# Altium footprint library Connector_Audio.PcbLib: 212 footprints (part 9 of 14)
Each footprint in its own frame and in the unit in brackets; x right, y up, seen from the top. Pads: shape width x height; smd on the part's side, far side on the other; paste and mask are expansions set on the pad; w line width, h text height; cw(c..) or ccw(c..) is an arc to the next point about the centre after c.
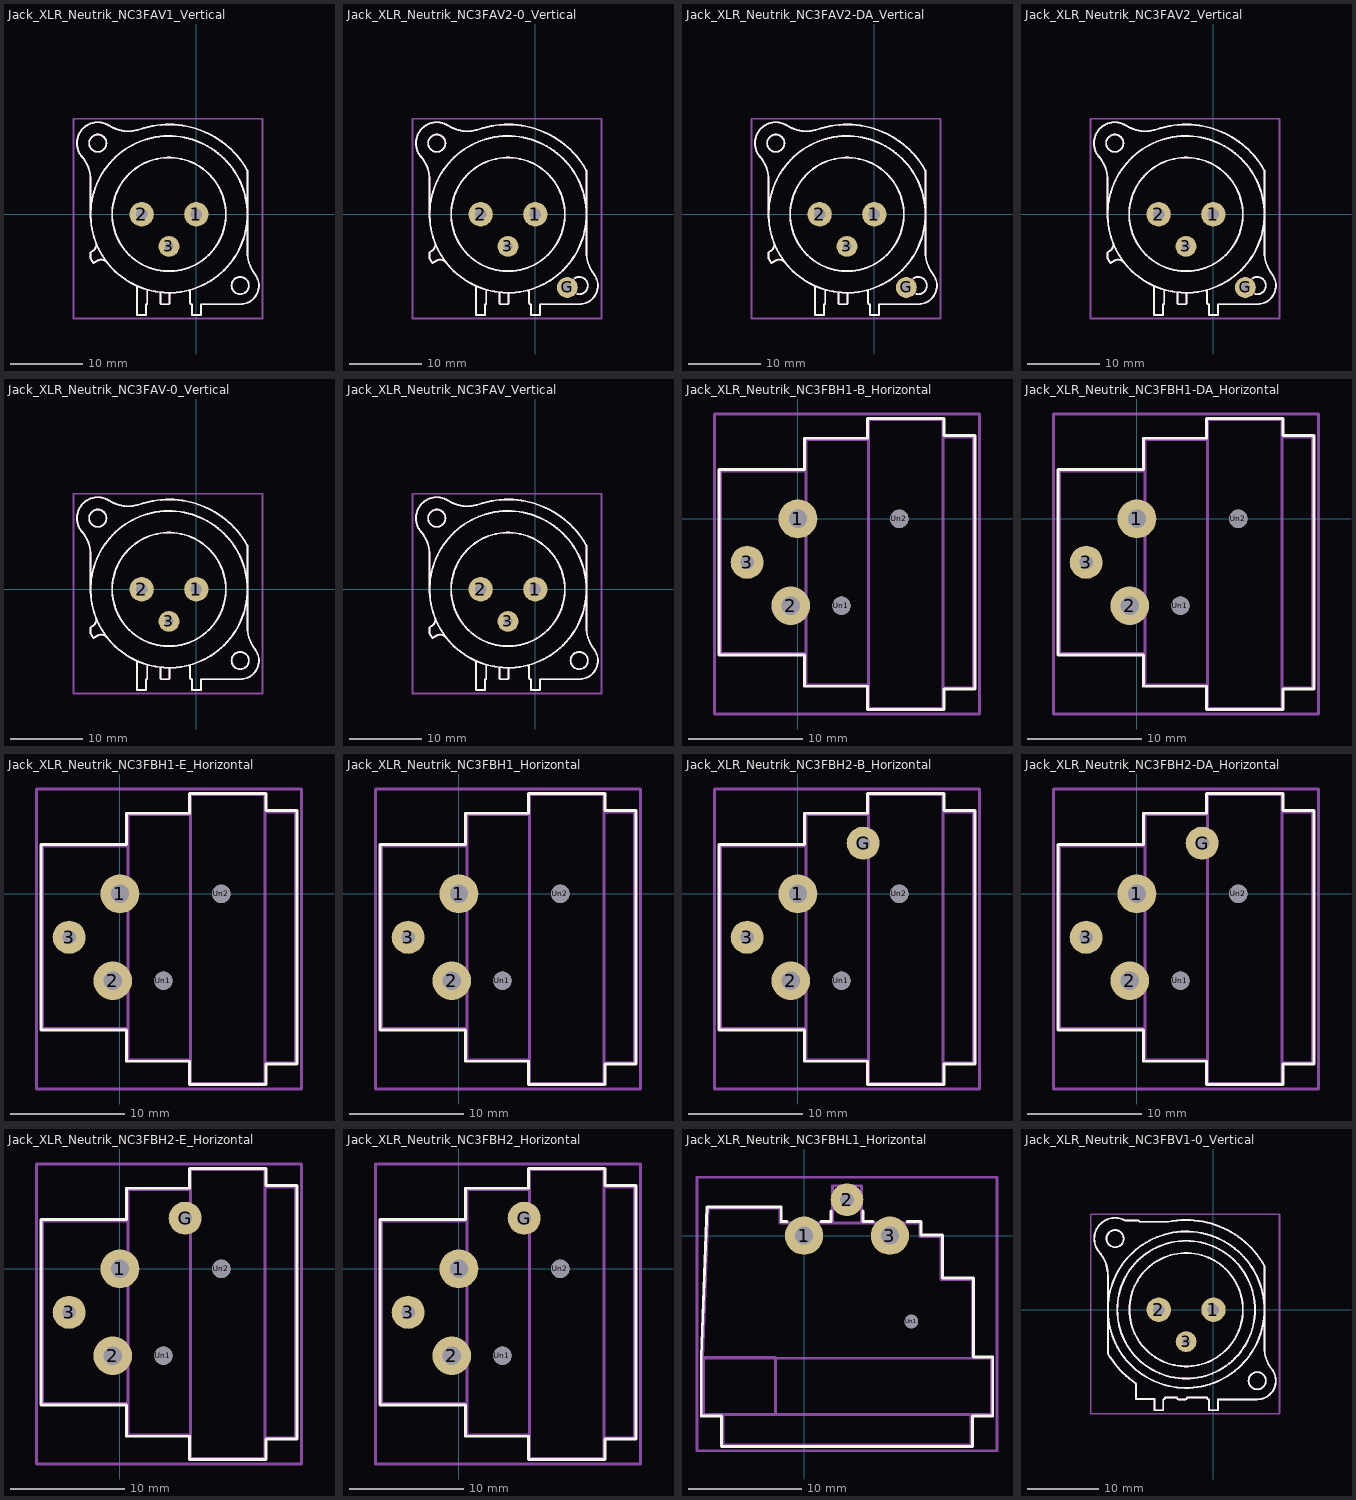
[diagram p8: the footprints below, top view; thin cyan lines are the x and y axes]

## Jack_XLR_Neutrik_NC3FAV1_Vertical [mm]
pads (3):
  round 3.4 hole 1.6: 1(0,0) 2(-7.62,0)
  round 2.9 hole 1.2: 3(-3.81,-4.45)
F.SilkS:
  circle w0.254: c6.09,-9.9 r1.2
  circle w0.254: c-3.81,0 r10.9
  circle w0.254: c-3.81,0 r7.9
  circle w0.254: c-13.71,9.9 r1.2
  lines w0.254: -15.909,8.001 cw(c-19.69,4.76) -14.71,4.76 -14.71,0 ; -15.908,8.002 cw(c-13.71,9.9) -12.15,12.35 ccw(c-9.46,16.56) -7.848,11.831 ; -14.323,-6.763 cw(c-3.809,0) -14.71,-6.12 -14.71,-5.26 -14.44,-5.11 ccw(c-14.95,-4.23) -14.004,-3.856 ; -14.32,-6.76 -13.71,-6.42 cw(c-13.22,-7.31) -12.412,-6.694 ; -8.24,-9.96 -8.24,-14 -7,-14 -7,-12.5 ccw(c-7,-12.34) -6.84,-12.34 -6.84,-10.69 cw(c-6.65,-10.69) -6.709,-10.509 ; -7.841,11.833 cw(c-3.81,0) 7.09,6.12 7.09,-5.24 ccw(c12.07,-5.24) 8.098,-8.244 ; -5.01,-10.83 -5.01,-12.3 ccw(c-4.81,-12.3) -4.81,-12.5 -3.94,-12.5 ccw(c-3.94,-12.3) -3.74,-12.3 -3.74,-10.9 ; -1.129,-10.566 cw(c-1.08,-10.76) -0.88,-10.76 -0.88,-12.3 ccw(c-0.68,-12.3) -0.68,-12.5 -0.63,-12.5 -0.63,-14 0.62,-14 ; 0.63,-14 0.63,-12.5 6.09,-12.5 ccw(c6.09,-9.9) 8.096,-8.246 ; 2.62,8.8 ccw(c3.18,9.33) 2.637,8.783 ; 2.64,8.8 ccw(c3.1,9.33) 2.68,8.768
Top Assembly:
  circle w0.254: c6.09,-9.9 r1.2
  circle w0.254: c-3.81,0 r10.9
  circle w0.254: c-3.81,0 r7.9
  circle w0.254: c-13.71,9.9 r1.2
  lines w0.254: -15.909,8.001 cw(c-19.69,4.76) -14.71,4.76 -14.71,0 ; -15.908,8.002 cw(c-13.71,9.9) -12.15,12.35 ccw(c-9.46,16.56) -7.848,11.831 ; -14.323,-6.763 cw(c-3.809,0) -14.71,-6.12 -14.71,-5.26 -14.44,-5.11 ccw(c-14.95,-4.23) -14.004,-3.856 ; -14.32,-6.76 -13.71,-6.42 cw(c-13.22,-7.31) -12.412,-6.694 ; -8.24,-9.96 -8.24,-14 -7,-14 -7,-12.5 ccw(c-7,-12.34) -6.84,-12.34 -6.84,-10.69 cw(c-6.65,-10.69) -6.709,-10.509 ; -7.841,11.833 cw(c-3.81,0) 7.09,6.12 7.09,-5.24 ccw(c12.07,-5.24) 8.098,-8.244 ; -5.01,-10.83 -5.01,-12.3 ccw(c-4.81,-12.3) -4.81,-12.5 -3.94,-12.5 ccw(c-3.94,-12.3) -3.74,-12.3 -3.74,-10.9 ; -1.129,-10.566 cw(c-1.08,-10.76) -0.88,-10.76 -0.88,-12.3 ccw(c-0.68,-12.3) -0.68,-12.5 -0.63,-12.5 -0.63,-14 0.62,-14 ; 0.63,-14 0.63,-12.5 6.09,-12.5 ccw(c6.09,-9.9) 8.096,-8.246 ; 2.62,8.8 ccw(c3.18,9.33) 2.637,8.783 ; 2.64,8.8 ccw(c3.1,9.33) 2.68,8.768
  text "'.Designator'" at -7.857,0.16 h1
Top Courtyard:
  lines w0.254: -17.1,-14.5 9.2,-14.5 9.2,13.3 -17.1,13.3 -17.1,-14.5
Top Designator:
  text ".Designator" at -11.568,-1.108 h1.52

## Jack_XLR_Neutrik_NC3FAV2-0_Vertical [mm]
pads (4):
  round 3.4 hole 1.6: 1(0,0) 2(-7.62,0)
  round 2.9 hole 1.2: 3(-3.81,-4.45) G(4.44,-10.16)
F.SilkS:
  circle w0.254: c-3.81,0 r10.9
  circle w0.254: c-3.81,0 r7.9
  circle w0.254: c-13.71,9.9 r1.2
  lines w0.254: -15.909,8.001 cw(c-19.69,4.76) -14.71,4.76 -14.71,0 ; -15.908,8.002 cw(c-13.71,9.9) -12.15,12.35 ccw(c-9.46,16.56) -7.848,11.831 ; -14.323,-6.763 cw(c-3.809,0) -14.71,-6.12 -14.71,-5.26 -14.44,-5.11 ccw(c-14.95,-4.23) -14.004,-3.856 ; -14.32,-6.76 -13.71,-6.42 cw(c-13.22,-7.31) -12.412,-6.694 ; -8.24,-9.96 -8.24,-14 -7,-14 -7,-12.5 ccw(c-7,-12.34) -6.84,-12.34 -6.84,-10.69 cw(c-6.65,-10.69) -6.709,-10.509 ; -7.841,11.833 cw(c-3.81,0) 7.09,6.12 7.09,-5.24 ccw(c12.07,-5.24) 8.098,-8.244 ; -5.01,-10.83 -5.01,-12.3 ccw(c-4.81,-12.3) -4.81,-12.5 -3.94,-12.5 ccw(c-3.94,-12.3) -3.74,-12.3 -3.74,-10.9 ; -1.129,-10.566 cw(c-1.08,-10.76) -0.88,-10.76 -0.88,-12.3 ccw(c-0.68,-12.3) -0.68,-12.5 -0.63,-12.5 -0.63,-14 0.62,-14 ; 0.63,-14 0.63,-12.5 6.09,-12.5 ccw(c6.09,-9.9) 8.096,-8.246 ; 2.62,8.8 ccw(c3.18,9.33) 2.637,8.783 ; 2.64,8.8 ccw(c3.1,9.33) 2.68,8.768 ; 5.508,-8.848 cw(c6.09,-9.9) 5.86,-11.08
Top Assembly:
  circle w0.254: c6.09,-9.9 r1.2
  circle w0.254: c-3.81,0 r10.9
  circle w0.254: c-3.81,0 r7.9
  circle w0.254: c-13.71,9.9 r1.2
  lines w0.254: -15.909,8.001 cw(c-19.69,4.76) -14.71,4.76 -14.71,0 ; -15.908,8.002 cw(c-13.71,9.9) -12.15,12.35 ccw(c-9.46,16.56) -7.848,11.831 ; -14.323,-6.763 cw(c-3.809,0) -14.71,-6.12 -14.71,-5.26 -14.44,-5.11 ccw(c-14.95,-4.23) -14.004,-3.856 ; -14.32,-6.76 -13.71,-6.42 cw(c-13.22,-7.31) -12.412,-6.694 ; -8.24,-9.96 -8.24,-14 -7,-14 -7,-12.5 ccw(c-7,-12.34) -6.84,-12.34 -6.84,-10.69 cw(c-6.65,-10.69) -6.709,-10.509 ; -7.841,11.833 cw(c-3.81,0) 7.09,6.12 7.09,-5.24 ccw(c12.07,-5.24) 8.098,-8.244 ; -5.01,-10.83 -5.01,-12.3 ccw(c-4.81,-12.3) -4.81,-12.5 -3.94,-12.5 ccw(c-3.94,-12.3) -3.74,-12.3 -3.74,-10.9 ; -1.129,-10.566 cw(c-1.08,-10.76) -0.88,-10.76 -0.88,-12.3 ccw(c-0.68,-12.3) -0.68,-12.5 -0.63,-12.5 -0.63,-14 0.62,-14 ; 0.63,-14 0.63,-12.5 6.09,-12.5 ccw(c6.09,-9.9) 8.096,-8.246 ; 2.62,8.8 ccw(c3.18,9.33) 2.637,8.783 ; 2.64,8.8 ccw(c3.1,9.33) 2.68,8.768
  text "'.Designator'" at -7.857,0.16 h1
Top Courtyard:
  lines w0.254: -17.1,-14.5 9.2,-14.5 9.2,13.3 -17.1,13.3 -17.1,-14.5
Top Designator:
  text ".Designator" at -11.568,-1.108 h1.52

## Jack_XLR_Neutrik_NC3FAV2-DA_Vertical [mm]
pads (4):
  round 3.4 hole 1.6: 1(0,0) 2(-7.62,0)
  round 2.9 hole 1.2: 3(-3.81,-4.45) G(4.44,-10.16)
F.SilkS:
  circle w0.254: c-3.81,0 r10.9
  circle w0.254: c-3.81,0 r7.9
  circle w0.254: c-13.71,9.9 r1.2
  lines w0.254: -15.909,8.001 cw(c-19.69,4.76) -14.71,4.76 -14.71,0 ; -15.908,8.002 cw(c-13.71,9.9) -12.15,12.35 ccw(c-9.46,16.56) -7.848,11.831 ; -14.323,-6.763 cw(c-3.809,0) -14.71,-6.12 -14.71,-5.26 -14.44,-5.11 ccw(c-14.95,-4.23) -14.004,-3.856 ; -14.32,-6.76 -13.71,-6.42 cw(c-13.22,-7.31) -12.412,-6.694 ; -8.24,-9.96 -8.24,-14 -7,-14 -7,-12.5 ccw(c-7,-12.34) -6.84,-12.34 -6.84,-10.69 cw(c-6.65,-10.69) -6.709,-10.509 ; -7.841,11.833 cw(c-3.81,0) 7.09,6.12 7.09,-5.24 ccw(c12.07,-5.24) 8.098,-8.244 ; -5.01,-10.83 -5.01,-12.3 ccw(c-4.81,-12.3) -4.81,-12.5 -3.94,-12.5 ccw(c-3.94,-12.3) -3.74,-12.3 -3.74,-10.9 ; -1.129,-10.566 cw(c-1.08,-10.76) -0.88,-10.76 -0.88,-12.3 ccw(c-0.68,-12.3) -0.68,-12.5 -0.63,-12.5 -0.63,-14 0.62,-14 ; 0.63,-14 0.63,-12.5 6.09,-12.5 ccw(c6.09,-9.9) 8.096,-8.246 ; 2.62,8.8 ccw(c3.18,9.33) 2.637,8.783 ; 2.64,8.8 ccw(c3.1,9.33) 2.68,8.768 ; 5.508,-8.848 cw(c6.09,-9.9) 5.86,-11.08
Top Assembly:
  circle w0.254: c6.09,-9.9 r1.2
  circle w0.254: c-3.81,0 r10.9
  circle w0.254: c-3.81,0 r7.9
  circle w0.254: c-13.71,9.9 r1.2
  lines w0.254: -15.909,8.001 cw(c-19.69,4.76) -14.71,4.76 -14.71,0 ; -15.908,8.002 cw(c-13.71,9.9) -12.15,12.35 ccw(c-9.46,16.56) -7.848,11.831 ; -14.323,-6.763 cw(c-3.809,0) -14.71,-6.12 -14.71,-5.26 -14.44,-5.11 ccw(c-14.95,-4.23) -14.004,-3.856 ; -14.32,-6.76 -13.71,-6.42 cw(c-13.22,-7.31) -12.412,-6.694 ; -8.24,-9.96 -8.24,-14 -7,-14 -7,-12.5 ccw(c-7,-12.34) -6.84,-12.34 -6.84,-10.69 cw(c-6.65,-10.69) -6.709,-10.509 ; -7.841,11.833 cw(c-3.81,0) 7.09,6.12 7.09,-5.24 ccw(c12.07,-5.24) 8.098,-8.244 ; -5.01,-10.83 -5.01,-12.3 ccw(c-4.81,-12.3) -4.81,-12.5 -3.94,-12.5 ccw(c-3.94,-12.3) -3.74,-12.3 -3.74,-10.9 ; -1.129,-10.566 cw(c-1.08,-10.76) -0.88,-10.76 -0.88,-12.3 ccw(c-0.68,-12.3) -0.68,-12.5 -0.63,-12.5 -0.63,-14 0.62,-14 ; 0.63,-14 0.63,-12.5 6.09,-12.5 ccw(c6.09,-9.9) 8.096,-8.246 ; 2.62,8.8 ccw(c3.18,9.33) 2.637,8.783 ; 2.64,8.8 ccw(c3.1,9.33) 2.68,8.768
  text "'.Designator'" at -7.857,0.16 h1
Top Courtyard:
  lines w0.254: -17.1,-14.5 9.2,-14.5 9.2,13.3 -17.1,13.3 -17.1,-14.5
Top Designator:
  text ".Designator" at -11.568,-1.108 h1.52

## Jack_XLR_Neutrik_NC3FAV2_Vertical [mm]
pads (4):
  round 3.4 hole 1.6: 1(0,0) 2(-7.62,0)
  round 2.9 hole 1.2: 3(-3.81,-4.45) G(4.44,-10.16)
F.SilkS:
  circle w0.254: c-3.81,0 r10.9
  circle w0.254: c-3.81,0 r7.9
  circle w0.254: c-13.71,9.9 r1.2
  lines w0.254: -15.909,8.001 cw(c-19.69,4.76) -14.71,4.76 -14.71,0 ; -15.908,8.002 cw(c-13.71,9.9) -12.15,12.35 ccw(c-9.46,16.56) -7.848,11.831 ; -14.323,-6.763 cw(c-3.809,0) -14.71,-6.12 -14.71,-5.26 -14.44,-5.11 ccw(c-14.95,-4.23) -14.004,-3.856 ; -14.32,-6.76 -13.71,-6.42 cw(c-13.22,-7.31) -12.412,-6.694 ; -8.24,-9.96 -8.24,-14 -7,-14 -7,-12.5 ccw(c-7,-12.34) -6.84,-12.34 -6.84,-10.69 cw(c-6.65,-10.69) -6.709,-10.509 ; -7.841,11.833 cw(c-3.81,0) 7.09,6.12 7.09,-5.24 ccw(c12.07,-5.24) 8.098,-8.244 ; -5.01,-10.83 -5.01,-12.3 ccw(c-4.81,-12.3) -4.81,-12.5 -3.94,-12.5 ccw(c-3.94,-12.3) -3.74,-12.3 -3.74,-10.9 ; -1.129,-10.566 cw(c-1.08,-10.76) -0.88,-10.76 -0.88,-12.3 ccw(c-0.68,-12.3) -0.68,-12.5 -0.63,-12.5 -0.63,-14 0.62,-14 ; 0.63,-14 0.63,-12.5 6.09,-12.5 ccw(c6.09,-9.9) 8.096,-8.246 ; 2.62,8.8 ccw(c3.18,9.33) 2.637,8.783 ; 2.64,8.8 ccw(c3.1,9.33) 2.68,8.768 ; 5.508,-8.848 cw(c6.09,-9.9) 5.86,-11.08
Top Assembly:
  circle w0.254: c6.09,-9.9 r1.2
  circle w0.254: c-3.81,0 r10.9
  circle w0.254: c-3.81,0 r7.9
  circle w0.254: c-13.71,9.9 r1.2
  lines w0.254: -15.909,8.001 cw(c-19.69,4.76) -14.71,4.76 -14.71,0 ; -15.908,8.002 cw(c-13.71,9.9) -12.15,12.35 ccw(c-9.46,16.56) -7.848,11.831 ; -14.323,-6.763 cw(c-3.809,0) -14.71,-6.12 -14.71,-5.26 -14.44,-5.11 ccw(c-14.95,-4.23) -14.004,-3.856 ; -14.32,-6.76 -13.71,-6.42 cw(c-13.22,-7.31) -12.412,-6.694 ; -8.24,-9.96 -8.24,-14 -7,-14 -7,-12.5 ccw(c-7,-12.34) -6.84,-12.34 -6.84,-10.69 cw(c-6.65,-10.69) -6.709,-10.509 ; -7.841,11.833 cw(c-3.81,0) 7.09,6.12 7.09,-5.24 ccw(c12.07,-5.24) 8.098,-8.244 ; -5.01,-10.83 -5.01,-12.3 ccw(c-4.81,-12.3) -4.81,-12.5 -3.94,-12.5 ccw(c-3.94,-12.3) -3.74,-12.3 -3.74,-10.9 ; -1.129,-10.566 cw(c-1.08,-10.76) -0.88,-10.76 -0.88,-12.3 ccw(c-0.68,-12.3) -0.68,-12.5 -0.63,-12.5 -0.63,-14 0.62,-14 ; 0.63,-14 0.63,-12.5 6.09,-12.5 ccw(c6.09,-9.9) 8.096,-8.246 ; 2.62,8.8 ccw(c3.18,9.33) 2.637,8.783 ; 2.64,8.8 ccw(c3.1,9.33) 2.68,8.768
  text "'.Designator'" at -7.857,0.16 h1
Top Courtyard:
  lines w0.254: -17.1,-14.5 9.2,-14.5 9.2,13.3 -17.1,13.3 -17.1,-14.5
Top Designator:
  text ".Designator" at -11.568,-1.108 h1.52

## Jack_XLR_Neutrik_NC3FAV-0_Vertical [mm]
pads (3):
  round 3.4 hole 1.6: 1(0,0) 2(-7.62,0)
  round 2.9 hole 1.2: 3(-3.81,-4.45)
F.SilkS:
  circle w0.254: c6.09,-9.9 r1.2
  circle w0.254: c-3.81,0 r10.9
  circle w0.254: c-3.81,0 r7.9
  circle w0.254: c-13.71,9.9 r1.2
  lines w0.254: -15.909,8.001 cw(c-19.69,4.76) -14.71,4.76 -14.71,0 ; -15.908,8.002 cw(c-13.71,9.9) -12.15,12.35 ccw(c-9.46,16.56) -7.848,11.831 ; -14.323,-6.763 cw(c-3.809,0) -14.71,-6.12 -14.71,-5.26 -14.44,-5.11 ccw(c-14.95,-4.23) -14.004,-3.856 ; -14.32,-6.76 -13.71,-6.42 cw(c-13.22,-7.31) -12.412,-6.694 ; -8.24,-9.96 -8.24,-14 -7,-14 -7,-12.5 ccw(c-7,-12.34) -6.84,-12.34 -6.84,-10.69 cw(c-6.65,-10.69) -6.709,-10.509 ; -7.841,11.833 cw(c-3.81,0) 7.09,6.12 7.09,-5.24 ccw(c12.07,-5.24) 8.098,-8.244 ; -5.01,-10.83 -5.01,-12.3 ccw(c-4.81,-12.3) -4.81,-12.5 -3.94,-12.5 ccw(c-3.94,-12.3) -3.74,-12.3 -3.74,-10.9 ; -1.129,-10.566 cw(c-1.08,-10.76) -0.88,-10.76 -0.88,-12.3 ccw(c-0.68,-12.3) -0.68,-12.5 -0.63,-12.5 -0.63,-14 0.62,-14 ; 0.63,-14 0.63,-12.5 6.09,-12.5 ccw(c6.09,-9.9) 8.096,-8.246 ; 2.62,8.8 ccw(c3.18,9.33) 2.637,8.783 ; 2.64,8.8 ccw(c3.1,9.33) 2.68,8.768
Top Assembly:
  circle w0.254: c6.09,-9.9 r1.2
  circle w0.254: c-3.81,0 r10.9
  circle w0.254: c-3.81,0 r7.9
  circle w0.254: c-13.71,9.9 r1.2
  lines w0.254: -15.909,8.001 cw(c-19.69,4.76) -14.71,4.76 -14.71,0 ; -15.908,8.002 cw(c-13.71,9.9) -12.15,12.35 ccw(c-9.46,16.56) -7.848,11.831 ; -14.323,-6.763 cw(c-3.809,0) -14.71,-6.12 -14.71,-5.26 -14.44,-5.11 ccw(c-14.95,-4.23) -14.004,-3.856 ; -14.32,-6.76 -13.71,-6.42 cw(c-13.22,-7.31) -12.412,-6.694 ; -8.24,-9.96 -8.24,-14 -7,-14 -7,-12.5 ccw(c-7,-12.34) -6.84,-12.34 -6.84,-10.69 cw(c-6.65,-10.69) -6.709,-10.509 ; -7.841,11.833 cw(c-3.81,0) 7.09,6.12 7.09,-5.24 ccw(c12.07,-5.24) 8.098,-8.244 ; -5.01,-10.83 -5.01,-12.3 ccw(c-4.81,-12.3) -4.81,-12.5 -3.94,-12.5 ccw(c-3.94,-12.3) -3.74,-12.3 -3.74,-10.9 ; -1.129,-10.566 cw(c-1.08,-10.76) -0.88,-10.76 -0.88,-12.3 ccw(c-0.68,-12.3) -0.68,-12.5 -0.63,-12.5 -0.63,-14 0.62,-14 ; 0.63,-14 0.63,-12.5 6.09,-12.5 ccw(c6.09,-9.9) 8.096,-8.246 ; 2.62,8.8 ccw(c3.18,9.33) 2.637,8.783 ; 2.64,8.8 ccw(c3.1,9.33) 2.68,8.768
  text "'.Designator'" at -7.857,0.16 h1
Top Courtyard:
  lines w0.254: -17.1,-14.5 9.2,-14.5 9.2,13.3 -17.1,13.3 -17.1,-14.5
Top Designator:
  text ".Designator" at -11.568,-1.108 h1.52

## Jack_XLR_Neutrik_NC3FAV_Vertical [mm]
pads (3):
  round 3.4 hole 1.6: 1(0,0) 2(-7.62,0)
  round 2.9 hole 1.2: 3(-3.81,-4.45)
F.SilkS:
  circle w0.254: c6.09,-9.9 r1.2
  circle w0.254: c-3.81,0 r10.9
  circle w0.254: c-3.81,0 r7.9
  circle w0.254: c-13.71,9.9 r1.2
  lines w0.254: -15.909,8.001 cw(c-19.69,4.76) -14.71,4.76 -14.71,0 ; -15.908,8.002 cw(c-13.71,9.9) -12.15,12.35 ccw(c-9.46,16.56) -7.848,11.831 ; -14.323,-6.763 cw(c-3.809,0) -14.71,-6.12 -14.71,-5.26 -14.44,-5.11 ccw(c-14.95,-4.23) -14.004,-3.856 ; -14.32,-6.76 -13.71,-6.42 cw(c-13.22,-7.31) -12.412,-6.694 ; -8.24,-9.96 -8.24,-14 -7,-14 -7,-12.5 ccw(c-7,-12.34) -6.84,-12.34 -6.84,-10.69 cw(c-6.65,-10.69) -6.709,-10.509 ; -7.841,11.833 cw(c-3.81,0) 7.09,6.12 7.09,-5.24 ccw(c12.07,-5.24) 8.098,-8.244 ; -5.01,-10.83 -5.01,-12.3 ccw(c-4.81,-12.3) -4.81,-12.5 -3.94,-12.5 ccw(c-3.94,-12.3) -3.74,-12.3 -3.74,-10.9 ; -1.129,-10.566 cw(c-1.08,-10.76) -0.88,-10.76 -0.88,-12.3 ccw(c-0.68,-12.3) -0.68,-12.5 -0.63,-12.5 -0.63,-14 0.62,-14 ; 0.63,-14 0.63,-12.5 6.09,-12.5 ccw(c6.09,-9.9) 8.096,-8.246 ; 2.62,8.8 ccw(c3.18,9.33) 2.637,8.783 ; 2.64,8.8 ccw(c3.1,9.33) 2.68,8.768
Top Assembly:
  circle w0.254: c6.09,-9.9 r1.2
  circle w0.254: c-3.81,0 r10.9
  circle w0.254: c-3.81,0 r7.9
  circle w0.254: c-13.71,9.9 r1.2
  lines w0.254: -15.909,8.001 cw(c-19.69,4.76) -14.71,4.76 -14.71,0 ; -15.908,8.002 cw(c-13.71,9.9) -12.15,12.35 ccw(c-9.46,16.56) -7.848,11.831 ; -14.323,-6.763 cw(c-3.809,0) -14.71,-6.12 -14.71,-5.26 -14.44,-5.11 ccw(c-14.95,-4.23) -14.004,-3.856 ; -14.32,-6.76 -13.71,-6.42 cw(c-13.22,-7.31) -12.412,-6.694 ; -8.24,-9.96 -8.24,-14 -7,-14 -7,-12.5 ccw(c-7,-12.34) -6.84,-12.34 -6.84,-10.69 cw(c-6.65,-10.69) -6.709,-10.509 ; -7.841,11.833 cw(c-3.81,0) 7.09,6.12 7.09,-5.24 ccw(c12.07,-5.24) 8.098,-8.244 ; -5.01,-10.83 -5.01,-12.3 ccw(c-4.81,-12.3) -4.81,-12.5 -3.94,-12.5 ccw(c-3.94,-12.3) -3.74,-12.3 -3.74,-10.9 ; -1.129,-10.566 cw(c-1.08,-10.76) -0.88,-10.76 -0.88,-12.3 ccw(c-0.68,-12.3) -0.68,-12.5 -0.63,-12.5 -0.63,-14 0.62,-14 ; 0.63,-14 0.63,-12.5 6.09,-12.5 ccw(c6.09,-9.9) 8.096,-8.246 ; 2.62,8.8 ccw(c3.18,9.33) 2.637,8.783 ; 2.64,8.8 ccw(c3.1,9.33) 2.68,8.768
  text "'.Designator'" at -7.857,0.16 h1
Top Courtyard:
  lines w0.254: -17.1,-14.5 9.2,-14.5 9.2,13.3 -17.1,13.3 -17.1,-14.5
Top Designator:
  text ".Designator" at -11.568,-1.108 h1.52

## Jack_XLR_Neutrik_NC3FBH1-B_Horizontal [mm]
pads (5):
  round 3.4 hole 1.6: 1(0,0) 2(-0.635,-7.62)
  round 2.9 hole 1.2: 3(-4.45,-3.81)
  round 1.6 hole 1.6: Un1(3.81,-7.62) Un2(8.89,0)
F.SilkS:
  lines w0.254: -6.92,-11.93 0.58,-11.93 0.58,-14.68 6.08,-14.68 6.08,-16.73 12.82,-16.73 12.82,-14.93 15.52,-14.93 15.52,7.31 12.82,7.31 12.82,8.81 6.08,8.81 6.08,7.06 0.58,7.06 0.58,4.31 -6.92,4.31 -6.92,-11.93
Top Assembly:
  lines w0.254: 0.7,-11.81 -6.8,-11.81 -6.8,4.19 0.7,4.19 ; 6.2,-14.56 0.7,-14.56 0.7,6.94 6.2,6.94 ; 12.7,-14.81 15.4,-14.81 15.4,7.19 12.7,7.19 ; 6.2,-16.61 12.7,-16.61 12.7,8.69 6.2,8.69 6.2,-16.61
  text "'.Designator'" at 6.303,-4.65 h1
Top Courtyard:
  lines w0.254: -7.3,-17.11 15.9,-17.11 15.9,9.19 -7.3,9.19 -7.3,-17.11
Top Designator:
  text ".Designator" at -3.318,-4.468 h1.52
Dwgs.User:
  lines w0.254: 12.7,-16.61 12.7,8.69

## Jack_XLR_Neutrik_NC3FBH1-DA_Horizontal [mm]
pads (5):
  round 3.4 hole 1.6: 1(0,0) 2(-0.635,-7.62)
  round 2.9 hole 1.2: 3(-4.45,-3.81)
  round 1.6 hole 1.6: Un1(3.81,-7.62) Un2(8.89,0)
F.SilkS:
  lines w0.254: -6.92,-11.93 0.58,-11.93 0.58,-14.68 6.08,-14.68 6.08,-16.73 12.82,-16.73 12.82,-14.93 15.52,-14.93 15.52,7.31 12.82,7.31 12.82,8.81 6.08,8.81 6.08,7.06 0.58,7.06 0.58,4.31 -6.92,4.31 -6.92,-11.93
Top Assembly:
  lines w0.254: 0.7,-11.81 -6.8,-11.81 -6.8,4.19 0.7,4.19 ; 6.2,-14.56 0.7,-14.56 0.7,6.94 6.2,6.94 ; 12.7,-14.81 15.4,-14.81 15.4,7.19 12.7,7.19 ; 6.2,-16.61 12.7,-16.61 12.7,8.69 6.2,8.69 6.2,-16.61
  text "'.Designator'" at 6.303,-4.65 h1
Top Courtyard:
  lines w0.254: -7.3,-17.11 15.9,-17.11 15.9,9.19 -7.3,9.19 -7.3,-17.11
Top Designator:
  text ".Designator" at -3.318,-4.468 h1.52
Dwgs.User:
  lines w0.254: 12.7,-16.61 12.7,8.69

## Jack_XLR_Neutrik_NC3FBH1-E_Horizontal [mm]
pads (5):
  round 3.4 hole 1.6: 1(0,0) 2(-0.635,-7.62)
  round 2.9 hole 1.2: 3(-4.45,-3.81)
  round 1.6 hole 1.6: Un1(3.81,-7.62) Un2(8.89,0)
F.SilkS:
  lines w0.254: -6.92,-11.93 0.58,-11.93 0.58,-14.68 6.08,-14.68 6.08,-16.73 12.82,-16.73 12.82,-14.93 15.52,-14.93 15.52,7.31 12.82,7.31 12.82,8.81 6.08,8.81 6.08,7.06 0.58,7.06 0.58,4.31 -6.92,4.31 -6.92,-11.93
Top Assembly:
  lines w0.254: 0.7,-11.81 -6.8,-11.81 -6.8,4.19 0.7,4.19 ; 6.2,-14.56 0.7,-14.56 0.7,6.94 6.2,6.94 ; 12.7,-14.81 15.4,-14.81 15.4,7.19 12.7,7.19 ; 6.2,-16.61 12.7,-16.61 12.7,8.69 6.2,8.69 6.2,-16.61
  text "'.Designator'" at 6.303,-4.65 h1
Top Courtyard:
  lines w0.254: -7.3,-17.11 15.9,-17.11 15.9,9.19 -7.3,9.19 -7.3,-17.11
Top Designator:
  text ".Designator" at -3.318,-4.468 h1.52
Dwgs.User:
  lines w0.254: 12.7,-16.61 12.7,8.69

## Jack_XLR_Neutrik_NC3FBH1_Horizontal [mm]
pads (5):
  round 3.4 hole 1.6: 1(0,0) 2(-0.635,-7.62)
  round 2.9 hole 1.2: 3(-4.45,-3.81)
  round 1.6 hole 1.6: Un1(3.81,-7.62) Un2(8.89,0)
F.SilkS:
  lines w0.254: -6.92,-11.93 0.58,-11.93 0.58,-14.68 6.08,-14.68 6.08,-16.73 12.82,-16.73 12.82,-14.93 15.52,-14.93 15.52,7.31 12.82,7.31 12.82,8.81 6.08,8.81 6.08,7.06 0.58,7.06 0.58,4.31 -6.92,4.31 -6.92,-11.93
Top Assembly:
  lines w0.254: 0.7,-11.81 -6.8,-11.81 -6.8,4.19 0.7,4.19 ; 6.2,-14.56 0.7,-14.56 0.7,6.94 6.2,6.94 ; 12.7,-14.81 15.4,-14.81 15.4,7.19 12.7,7.19 ; 6.2,-16.61 12.7,-16.61 12.7,8.69 6.2,8.69 6.2,-16.61
  text "'.Designator'" at 6.303,-4.65 h1
Top Courtyard:
  lines w0.254: -7.3,-17.11 15.9,-17.11 15.9,9.19 -7.3,9.19 -7.3,-17.11
Top Designator:
  text ".Designator" at -3.318,-4.468 h1.52
Dwgs.User:
  lines w0.254: 12.7,-16.61 12.7,8.69

## Jack_XLR_Neutrik_NC3FBH2-B_Horizontal [mm]
pads (6):
  round 3.4 hole 1.6: 1(0,0) 2(-0.635,-7.62)
  round 2.9 hole 1.2: 3(-4.45,-3.81) G(5.72,4.44)
  round 1.6 hole 1.6: Un1(3.81,-7.62) Un2(8.89,0)
F.SilkS:
  lines w0.254: -6.92,-11.93 0.58,-11.93 0.58,-14.68 6.08,-14.68 6.08,-16.73 12.82,-16.73 12.82,-14.93 15.52,-14.93 15.52,7.31 12.82,7.31 12.82,8.81 6.08,8.81 6.08,7.06 0.58,7.06 0.58,4.31 -6.92,4.31 -6.92,-11.93
Top Assembly:
  lines w0.254: 0.7,-11.81 -6.8,-11.81 -6.8,4.19 0.7,4.19 ; 6.2,-14.56 0.7,-14.56 0.7,6.94 6.2,6.94 ; 12.7,-14.81 15.4,-14.81 15.4,7.19 12.7,7.19 ; 6.2,-16.61 12.7,-16.61 12.7,8.69 6.2,8.69 6.2,-16.61
  text "'.Designator'" at 6.303,-4.65 h1
Top Courtyard:
  lines w0.254: -7.3,-17.11 15.9,-17.11 15.9,9.19 -7.3,9.19 -7.3,-17.11
Top Designator:
  text ".Designator" at -3.318,-4.468 h1.52
Dwgs.User:
  lines w0.254: 12.7,-16.61 12.7,8.69

## Jack_XLR_Neutrik_NC3FBH2-DA_Horizontal [mm]
pads (6):
  round 3.4 hole 1.6: 1(0,0) 2(-0.635,-7.62)
  round 2.9 hole 1.2: 3(-4.45,-3.81) G(5.72,4.44)
  round 1.6 hole 1.6: Un1(3.81,-7.62) Un2(8.89,0)
F.SilkS:
  lines w0.254: -6.92,-11.93 0.58,-11.93 0.58,-14.68 6.08,-14.68 6.08,-16.73 12.82,-16.73 12.82,-14.93 15.52,-14.93 15.52,7.31 12.82,7.31 12.82,8.81 6.08,8.81 6.08,7.06 0.58,7.06 0.58,4.31 -6.92,4.31 -6.92,-11.93
Top Assembly:
  lines w0.254: 0.7,-11.81 -6.8,-11.81 -6.8,4.19 0.7,4.19 ; 6.2,-14.56 0.7,-14.56 0.7,6.94 6.2,6.94 ; 12.7,-14.81 15.4,-14.81 15.4,7.19 12.7,7.19 ; 6.2,-16.61 12.7,-16.61 12.7,8.69 6.2,8.69 6.2,-16.61
  text "'.Designator'" at 6.303,-4.65 h1
Top Courtyard:
  lines w0.254: -7.3,-17.11 15.9,-17.11 15.9,9.19 -7.3,9.19 -7.3,-17.11
Top Designator:
  text ".Designator" at -3.318,-4.468 h1.52
Dwgs.User:
  lines w0.254: 12.7,-16.61 12.7,8.69

## Jack_XLR_Neutrik_NC3FBH2-E_Horizontal [mm]
pads (6):
  round 3.4 hole 1.6: 1(0,0) 2(-0.635,-7.62)
  round 2.9 hole 1.2: 3(-4.45,-3.81) G(5.72,4.44)
  round 1.6 hole 1.6: Un1(3.81,-7.62) Un2(8.89,0)
F.SilkS:
  lines w0.254: -6.92,-11.93 0.58,-11.93 0.58,-14.68 6.08,-14.68 6.08,-16.73 12.82,-16.73 12.82,-14.93 15.52,-14.93 15.52,7.31 12.82,7.31 12.82,8.81 6.08,8.81 6.08,7.06 0.58,7.06 0.58,4.31 -6.92,4.31 -6.92,-11.93
Top Assembly:
  lines w0.254: 0.7,-11.81 -6.8,-11.81 -6.8,4.19 0.7,4.19 ; 6.2,-14.56 0.7,-14.56 0.7,6.94 6.2,6.94 ; 12.7,-14.81 15.4,-14.81 15.4,7.19 12.7,7.19 ; 6.2,-16.61 12.7,-16.61 12.7,8.69 6.2,8.69 6.2,-16.61
  text "'.Designator'" at 6.303,-4.65 h1
Top Courtyard:
  lines w0.254: -7.3,-17.11 15.9,-17.11 15.9,9.19 -7.3,9.19 -7.3,-17.11
Top Designator:
  text ".Designator" at -3.318,-4.468 h1.52
Dwgs.User:
  lines w0.254: 12.7,-16.61 12.7,8.69

## Jack_XLR_Neutrik_NC3FBH2_Horizontal [mm]
pads (6):
  round 3.4 hole 1.6: 1(0,0) 2(-0.635,-7.62)
  round 2.9 hole 1.2: 3(-4.45,-3.81) G(5.72,4.44)
  round 1.6 hole 1.6: Un1(3.81,-7.62) Un2(8.89,0)
F.SilkS:
  lines w0.254: -6.92,-11.93 0.58,-11.93 0.58,-14.68 6.08,-14.68 6.08,-16.73 12.82,-16.73 12.82,-14.93 15.52,-14.93 15.52,7.31 12.82,7.31 12.82,8.81 6.08,8.81 6.08,7.06 0.58,7.06 0.58,4.31 -6.92,4.31 -6.92,-11.93
Top Assembly:
  lines w0.254: 0.7,-11.81 -6.8,-11.81 -6.8,4.19 0.7,4.19 ; 6.2,-14.56 0.7,-14.56 0.7,6.94 6.2,6.94 ; 12.7,-14.81 15.4,-14.81 15.4,7.19 12.7,7.19 ; 6.2,-16.61 12.7,-16.61 12.7,8.69 6.2,8.69 6.2,-16.61
  text "'.Designator'" at 6.303,-4.65 h1
Top Courtyard:
  lines w0.254: -7.3,-17.11 15.9,-17.11 15.9,9.19 -7.3,9.19 -7.3,-17.11
Top Designator:
  text ".Designator" at -3.318,-4.468 h1.52
Dwgs.User:
  lines w0.254: 12.7,-16.61 12.7,8.69

## Jack_XLR_Neutrik_NC3FBHL1_Horizontal [mm]
pads (4):
  round 3.4 hole 1.6: 1(0,0) 3(7.62,0)
  round 2.9 hole 1.2: 2(3.81,3.18)
  round 1.2 hole 1.2: Un1(9.52,-7.61)
F.SilkS:
  lines w0.254: -1.5,1.25 -2.02,1.25 -2.02,2.55 -8.61,2.55 -9.11,-10.75 -9.11,-15.99 -7.31,-15.99 -7.31,-18.69 14.93,-18.69 14.93,-15.99 16.73,-15.99 16.73,-10.75 15.03,-10.75 15.03,-3.75 12.28,-3.75 12.28,0.05 10.38,0.05 10.38,1.25 9.15,1.25 ; 1.5,1.25 2.39,1.25 2.39,2.2 ; 5.23,2.2 5.23,1.25 6.1,1.25
Top Assembly:
  lines w0.254: -7.19,-15.87 -7.19,-18.57 14.81,-18.57 14.81,-15.87 ; 2.51,1.13 2.51,4.43 5.11,4.43 5.11,1.13 ; 14.91,-10.87 14.91,-3.87 12.16,-3.87 12.16,-0.07 10.26,-0.07 10.26,1.13 -2.14,1.13 -2.14,2.43 -8.49,2.43 -8.99,-10.87 ; -8.99,-10.87 -8.99,-15.87 16.61,-15.87 16.61,-10.87 -8.99,-10.87
  text "'.Designator'" at -0.237,-14.36 h1
Top Courtyard:
  lines w0.254: -9.49,-19.07 17.11,-19.07 17.11,5.18 -9.49,5.18 -9.49,-19.07
Top Designator:
  text ".Designator" at -3.808,-7.453 h1.52
Board Shape:
  lines w0.254: -8.99,-15.87 16.61,-15.87 ; -8.89,-15.87 -8.89,-10.79 -2.54,-10.79 -2.54,-15.87

## Jack_XLR_Neutrik_NC3FBV1-0_Vertical [mm]
pads (3):
  round 3.4 hole 1.6: 1(0,0) 2(-7.62,0)
  round 2.9 hole 1.2: 3(-3.81,-4.45)
F.SilkS:
  circle w0.254: c6.09,-9.9 r1.2
  circle w0.254: c-3.81,0 r10.9
  circle w0.254: c-3.81,0 r9.6
  circle w0.254: c-3.81,0 r7.9
  circle w0.254: c-13.71,9.9 r1.2
  lines w0.254: -15.916,8.02 cw(c-19.72,4.76) -14.71,4.76 -14.71,-6.12 -14.43,-6.6 ccw(c-14.26,-6.49) -14.314,-6.685 ; -15.909,8.01 cw(c-13.71,9.9) -12.33,12.45 -10.41,12.45 -10.29,12.25 -6.3,12.25 ; -14.31,-6.69 ccw(c-3.81,0) -10.879,-10.249 ; -10.874,-10.253 cw(c-11.01,-10.4) -10.81,-10.39 -10.81,-12.45 -8.24,-12.45 -8.24,-14 -7,-14 -7,-12.5 ccw(c-7,-12.25) -6.75,-12.25 -5.07,-12.25 ccw(c-4.82,-12.25) -4.82,-12.5 -3.95,-12.5 ccw(c-3.95,-12.25) -3.7,-12.25 -0.88,-12.25 ccw(c-0.63,-12.25) -0.63,-12.5 -0.63,-14 0.62,-14 0.62,-12.5 6.09,-12.5 ccw(c6.09,-9.9) 8.111,-8.264 ; -6.284,12.253 cw(c-3.81,0) 7.09,6.12 7.09,-5.67 ccw(c12.07,-5.21) 8.112,-8.267
Top Assembly:
  circle w0.254: c6.09,-9.9 r1.2
  circle w0.254: c-3.81,0 r10.9
  circle w0.254: c-3.81,0 r9.6
  circle w0.254: c-3.81,0 r7.9
  circle w0.254: c-13.71,9.9 r1.2
  lines w0.254: -15.916,8.02 cw(c-19.72,4.76) -14.71,4.76 -14.71,-6.12 -14.43,-6.6 ccw(c-14.26,-6.49) -14.314,-6.685 ; -15.909,8.01 cw(c-13.71,9.9) -12.33,12.45 -10.41,12.45 -10.29,12.25 -6.3,12.25 ; -14.31,-6.69 ccw(c-3.81,0) -10.879,-10.249 ; -10.874,-10.253 cw(c-11.01,-10.4) -10.81,-10.39 -10.81,-12.45 -8.24,-12.45 -8.24,-14 -7,-14 -7,-12.5 ccw(c-7,-12.25) -6.75,-12.25 -5.07,-12.25 ccw(c-4.82,-12.25) -4.82,-12.5 -3.95,-12.5 ccw(c-3.95,-12.25) -3.7,-12.25 -0.88,-12.25 ccw(c-0.63,-12.25) -0.63,-12.5 -0.63,-14 0.62,-14 0.62,-12.5 6.09,-12.5 ccw(c6.09,-9.9) 8.111,-8.264 ; -6.284,12.253 cw(c-3.81,0) 7.09,6.12 7.09,-5.67 ccw(c12.07,-5.21) 8.112,-8.267
  text "'.Designator'" at -7.857,0.16 h1
Top Courtyard:
  lines w0.254: -17.1,-14.5 9.2,-14.5 9.2,13.3 -17.1,13.3 -17.1,-14.5
Top Designator:
  text ".Designator" at -11.568,-1.108 h1.52